# EAGLE library part SWS006 (library smd-special)
SMD Dip Switch 6 pol.
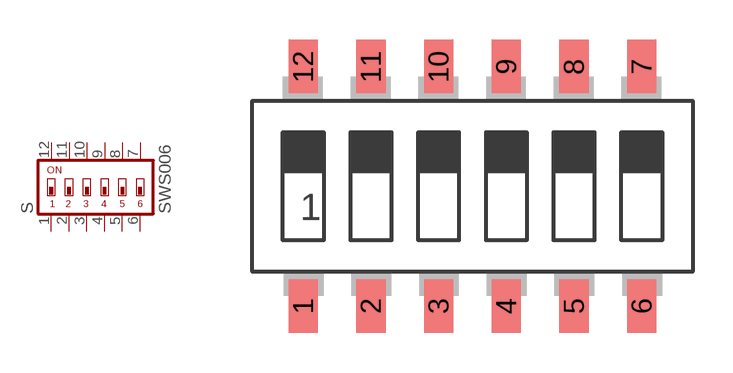
[diagram p1: symbol with the pads of SMS-006; footprint SMS-006]

Designator prefix S

## SWS006  [SMS-006]
1  1  pas
2  2  pas
3  3  pas
4  4  pas
5  5  pas
6  6  pas
7  7  pas
8  8  pas
9  9  pas
10  10  pas
11  11  pas
12  12  pas

## Footprint SMS-006 (pad centres in mm)
DIP SWITCH
smd 1.092 x 2.007: 1 -6.35,-4.496; 2 -3.81,-4.496; 3 -1.27,-4.496; 4 1.27,-4.496; 5 3.81,-4.496; 6 6.35,-4.496; 7 6.35,4.496; 8 3.81,4.496; 9 1.27,4.496; 10 -1.27,4.496; 11 -3.81,4.496; 12 -6.35,4.496